# Altium schematic symbol library xfmr_1.Schlib: 1 symbol
Pins are listed as number, name and electrical type; pins without a type are passive.

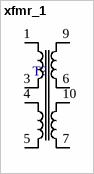
[diagram p0: symbol xfmr_1]

## xfmr_1
designator T?  (value not drawn)
Transformer, 8 terminal, 10 pos
pins: 1, 3, 4, 5, 6, 7, 9, 10